# Altium footprint library JLC_25.PcbLib: 87 footprints (part 6 of 6)
Each footprint in its own frame and in the unit in brackets; x right, y up, seen from the top. Pads: shape width x height; smd on the part's side, far side on the other; paste and mask are expansions set on the pad; w line width, h text height; cw(c..) or ccw(c..) is an arc to the next point about the centre after c.
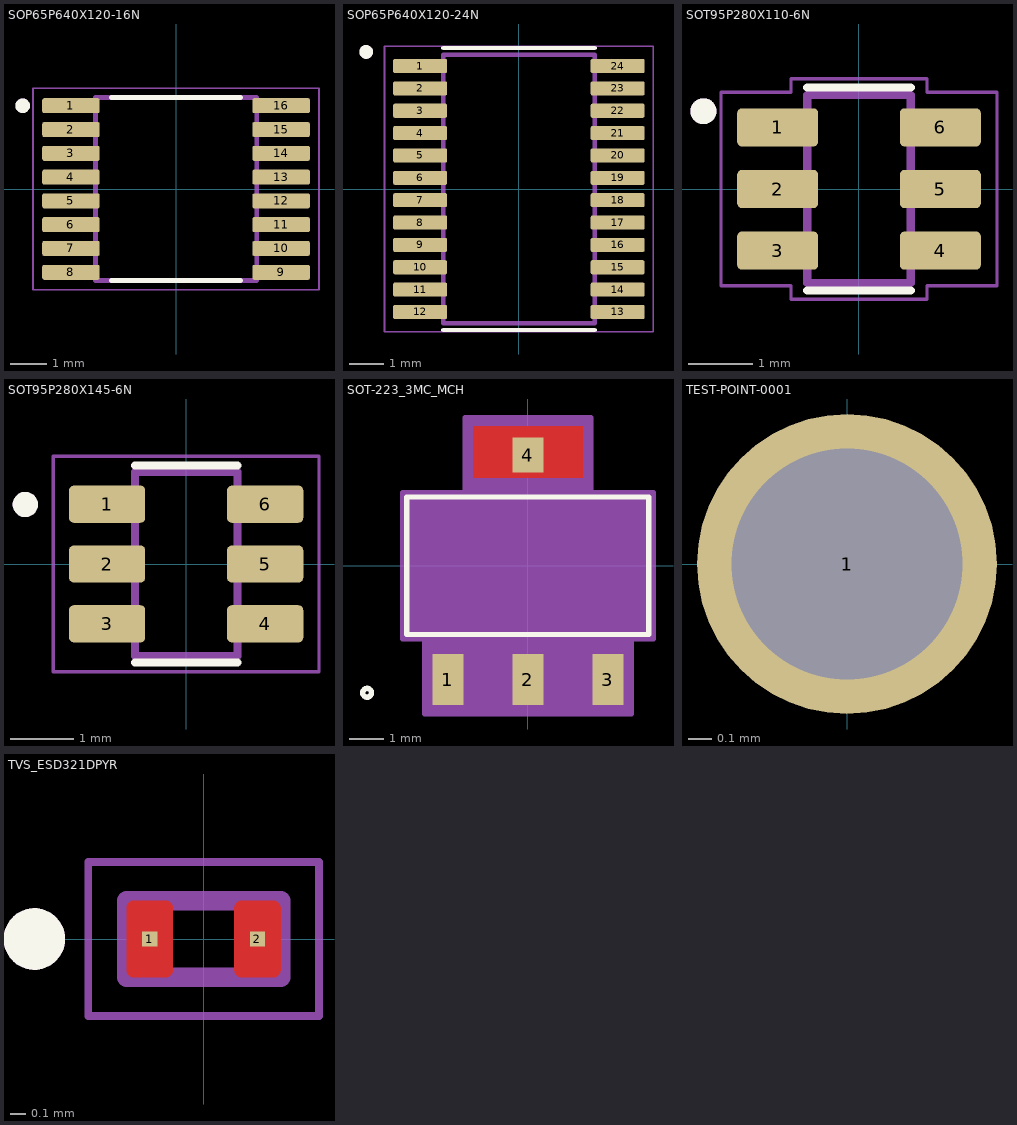
[diagram p5: the footprints below, top view; thin cyan lines are the x and y axes]

## SOP65P640X120-16N [mm]
height 1.2
pads (16):
  rrect25% 1.57x0.41 smd: 1(-2.87,2.275) 2(-2.87,1.625) 3(-2.87,0.975) 4(-2.87,0.325) 5(-2.87,-0.325) 6(-2.87,-0.975) 7(-2.87,-1.625) 8(-2.87,-2.275) 9(2.87,-2.275) 10(2.87,-1.625) 11(2.87,-0.975) 12(2.87,-0.325) 13(2.87,0.325) 14(2.87,0.975) 15(2.87,1.625) 16(2.87,2.275)
Top Overlay:
  circle w0.2: c-4.19,2.275 r0.1
  lines w0.127: -1.765,-2.5 1.765,-2.5 ; -1.765,2.5 1.765,2.5
Mechanical 13:
  circle w0.2: c-4.19,2.275 r0.1
  lines w0.127: -2.2,-2.5 -2.2,2.5 2.2,2.5 2.2,-2.5 -2.2,-2.5
Mechanical 15:
  lines w0.05: -3.905,-2.75 -3.905,2.75 3.905,2.75 3.905,-2.75 -3.905,-2.75
3D body "step_temp.STEP": height 1.2, standoff 0, extent -3.2,-2.5 3.2,2.5

## SOP65P640X120-24N [mm]
height 1.2
pads (24):
  rrect25% 1.57x0.41 smd: 1(-2.87,3.575) 2(-2.87,2.925) 3(-2.87,2.275) 4(-2.87,1.625) 5(-2.87,0.975) 6(-2.87,0.325) 7(-2.87,-0.325) 8(-2.87,-0.975) 9(-2.87,-1.625) 10(-2.87,-2.275) 11(-2.87,-2.925) 12(-2.87,-3.575) 13(2.87,-3.575) 14(2.87,-2.925) 15(2.87,-2.275) 16(2.87,-1.625) 17(2.87,-0.975) 18(2.87,-0.325) 19(2.87,0.325) 20(2.87,0.975) 21(2.87,1.625) 22(2.87,2.275) 23(2.87,2.925) 24(2.87,3.575)
Top Overlay:
  circle w0.2: c-4.44,3.985 r0.1
  lines w0.127: -2.2,-4.1 2.2,-4.1 ; -2.2,4.1 2.2,4.1
Mechanical 13:
  circle w0.2: c-4.44,3.985 r0.1
  lines w0.127: -2.2,-3.9 2.2,-3.9 2.2,3.9 -2.2,3.9 -2.2,-3.9
Mechanical 15:
  lines w0.05: -3.905,-4.15 3.905,-4.15 3.905,4.15 -3.905,4.15 -3.905,-4.15
3D body "step_temp.STEP": height 1.2, standoff 0, extent -3.2,-3.9 3.2,3.9

## SOT95P280X110-6N [mm]
height 1.1
pads (6):
  rrect25% 1.25x0.59 smd: 1(-1.255,0.95) 2(-1.255,0) 3(-1.255,-0.95) 4(1.255,-0.95) 5(1.255,0) 6(1.255,0.95)
Top Overlay:
  circle w0.2: c-2.4,1.2 r0.1
  lines w0.127: -0.8,-1.565 0.8,-1.565 ; -0.8,1.565 0.8,1.565
Mechanical 13:
  circle w0.2: c-2.4,1.2 r0.1
  lines w0.127: -0.8,-1.45 -0.8,1.45 0.8,1.45 0.8,-1.45 -0.8,-1.45
Mechanical 15:
  lines w0.05: -2.13,-1.495 -2.13,1.495 -1.05,1.495 -1.05,1.7 1.05,1.7 1.05,1.495 2.13,1.495 2.13,-1.495 1.05,-1.495 1.05,-1.7 -1.05,-1.7 -1.05,-1.495 -2.13,-1.495
3D body "step_temp.STEP": height 1.1, standoff 0, extent -1.4,-1.45 1.4,1.45

## SOT95P280X145-6N [mm]
pads (6):
  rrect25% 1.21x0.59 smd: 1(-1.255,0.95) 2(-1.255,0) 3(-1.255,-0.95) 4(1.255,-0.95) 5(1.255,0) 6(1.255,0.95)
Top Overlay:
  circle w0.2: c-2.555,0.945 r0.1
  lines w0.127: -0.813,-1.565 0.813,-1.565 ; -0.813,1.565 0.813,1.565
Mechanical 13:
  circle w0.2: c-2.555,0.945 r0.1
  lines w0.127: -0.813,-1.462 -0.813,1.462 0.813,1.462 0.813,-1.462 -0.813,-1.462
Mechanical 15:
  lines w0.05: -2.11,-1.713 2.11,-1.713 2.11,1.713 -2.11,1.713 -2.11,-1.713
3D body "step_temp.STEP": height 1.42, standoff -0.03, extent -1.4,-1.462 1.4,1.462

## SOT-223_3MC_MCH [mil]
pads (4):
  rect 35x58 smd paste+0 mask+0: 1(-90.55,-128.7) 2(0,-128.7) 3(90.55,-128.7)
  rect 35x40 smd paste+0 mask+0: 4(0,125.27)
Top Layer:
  region: 62,99.7 62,157.7 -62,157.7 -62,99.7
Top Overlay:
  circle w6: c-181.89,-143.7 r5
  lines w6: -136.89,-77.83 -136.89,77.83 136.89,77.83 136.89,-77.83 -136.89,-77.83
Top Paste:
  region: 62,99.7 62,157.7 -62,157.7 -62,99.7
Top Solder:
  region: 63,85.7 63,171.7 -63,171.7 -63,85.7
Mechanical 13:
  circle w0: c-121.89,-62.83 r5
  lines w1: -131.89,-72.83 -131.89,72.83 131.89,72.83 131.89,-72.83 -131.89,-72.83 ; -107.05,-143.7 -74.05,-143.7 -74.05,-72.83 -107.05,-72.83 -107.05,-143.7 ; -61,72.83 -61,143.7 61,143.7 61,72.83 -61,72.83 ; -16.5,-143.7 16.5,-143.7 16.5,-72.83 -16.5,-72.83 -16.5,-143.7 ; 74.05,-143.7 107.05,-143.7 107.05,-72.83 74.05,-72.83 74.05,-143.7
Mechanical 15:
  region: -141.89,-82.83 -141.89,82.83 -71,82.83 -71,167.7 71,167.7 71,82.83 141.89,82.83 141.89,-82.83 117.05,-82.83 117.05,-167.7 -117.05,-167.7 -117.05,-82.83
  lines w6: -141.89,-82.83 -117.05,-82.83 -117.05,-167.7 117.05,-167.7 117.05,-82.83 141.89,-82.83 141.89,82.83 71,82.83 71,167.7 -71,167.7 -71,82.83 -141.89,82.83 -141.89,-82.83
3D body "SOT-223_3MC_MCH.step": height 70.98, standoff 0, extent -131.89,-143.7 131.89,143.7

## TEST-POINT-0001 [mm] "2024 miniature test point"
pads (1):
  round 1.3 hole 1: 1(0,0)
3D body "5003--3DModel-STEP-630548.STEP": height 4.57, standoff -3.05, extent -1.27,-1.27 1.27,1.27

## TVS_ESD321DPYR [mm]
pads (2):
  rect 0.1x0.1 smd paste-1 mask+0: 1(-0.35,0) 2(0.35,0)
Top Layer:
  region: 0.458,0.249 0.46,0.249 0.463,0.248 0.465,0.248 0.468,0.247 0.47,0.246 0.473,0.245 0.475,0.243 0.477,0.242 0.479,0.24 0.481,0.239 0.483,0.237 0.485,0.235 0.487,0.233 0.489,0.231 0.49,0.229 0.492,0.227 0.493,0.225 0.495,0.223 0.496,0.22 0.497,0.218 0.498,0.215 0.498,0.213 0.499,0.21 0.499,0.208 0.5,0.205 0.5,0.203 0.5,0.2 0.5,-0.2 0.5,-0.203 0.5,-0.205 0.499,-0.208 0.499,-0.21 0.498,-0.213 0.498,-0.215 0.497,-0.218 0.496,-0.22 0.495,-0.223 0.493,-0.225 0.492,-0.227 0.49,-0.229 0.489,-0.231 0.487,-0.233 0.485,-0.235 0.483,-0.237 0.481,-0.239 0.479,-0.24 0.477,-0.242 0.475,-0.243 0.473,-0.245 0.47,-0.246 0.468,-0.247 0.465,-0.248 0.463,-0.248 0.46,-0.249 0.458,-0.249 0.455,-0.25 0.245,-0.25 0.242,-0.249 0.24,-0.249 0.237,-0.248 0.235,-0.248 0.232,-0.247 0.23,-0.246 0.227,-0.245 0.225,-0.243 0.223,-0.242 0.221,-0.24 0.219,-0.239 0.217,-0.237 0.215,-0.235 0.213,-0.233 0.211,-0.231 0.21,-0.229 0.208,-0.227 0.207,-0.225 0.205,-0.223 0.204,-0.22 0.203,-0.218 0.202,-0.215 0.202,-0.213 0.201,-0.21 0.201,-0.208 0.2,-0.205 0.2,-0.203 0.2,-0.2 0.2,0.2 0.2,0.203 0.2,0.205 0.201,0.208 0.201,0.21 0.202,0.213 0.202,0.215 0.203,0.218 0.204,0.22 0.205,0.223 0.207,0.225 0.208,0.227 0.21,0.229 0.211,0.231 0.213,0.233 0.215,0.235 0.217,0.237 0.219,0.239 0.221,0.24 0.223,0.242 0.225,0.243 0.227,0.245 0.23,0.246 0.232,0.247 0.235,0.248 0.237,0.248 0.24,0.249 0.242,0.249 0.245,0.25 0.455,0.25
  region: -0.242,0.249 -0.24,0.249 -0.237,0.248 -0.235,0.248 -0.232,0.247 -0.23,0.246 -0.227,0.245 -0.225,0.243 -0.223,0.242 -0.221,0.24 -0.219,0.239 -0.217,0.237 -0.215,0.235 -0.213,0.233 -0.211,0.231 -0.21,0.229 -0.208,0.227 -0.207,0.225 -0.205,0.223 -0.204,0.22 -0.203,0.218 -0.202,0.215 -0.202,0.213 -0.201,0.21 -0.201,0.208 -0.2,0.205 -0.2,0.203 -0.2,0.2 -0.2,-0.2 -0.2,-0.203 -0.2,-0.205 -0.201,-0.208 -0.201,-0.21 -0.202,-0.213 -0.202,-0.215 -0.203,-0.218 -0.204,-0.22 -0.205,-0.223 -0.207,-0.225 -0.208,-0.227 -0.21,-0.229 -0.211,-0.231 -0.213,-0.233 -0.215,-0.235 -0.217,-0.237 -0.219,-0.239 -0.221,-0.24 -0.223,-0.242 -0.225,-0.243 -0.227,-0.245 -0.23,-0.246 -0.232,-0.247 -0.235,-0.248 -0.237,-0.248 -0.24,-0.249 -0.242,-0.249 -0.245,-0.25 -0.455,-0.25 -0.458,-0.249 -0.46,-0.249 -0.463,-0.248 -0.465,-0.248 -0.468,-0.247 -0.47,-0.246 -0.473,-0.245 -0.475,-0.243 -0.477,-0.242 -0.479,-0.24 -0.481,-0.239 -0.483,-0.237 -0.485,-0.235 -0.487,-0.233 -0.489,-0.231 -0.49,-0.229 -0.492,-0.227 -0.493,-0.225 -0.495,-0.223 -0.496,-0.22 -0.497,-0.218 -0.498,-0.215 -0.498,-0.213 -0.499,-0.21 -0.499,-0.208 -0.5,-0.205 -0.5,-0.203 -0.5,-0.2 -0.5,0.2 -0.5,0.203 -0.5,0.205 -0.499,0.208 -0.499,0.21 -0.498,0.213 -0.498,0.215 -0.497,0.218 -0.496,0.22 -0.495,0.223 -0.493,0.225 -0.492,0.227 -0.49,0.229 -0.489,0.231 -0.487,0.233 -0.485,0.235 -0.483,0.237 -0.481,0.239 -0.479,0.24 -0.477,0.242 -0.475,0.243 -0.473,0.245 -0.47,0.246 -0.468,0.247 -0.465,0.248 -0.463,0.248 -0.46,0.249 -0.458,0.249 -0.455,0.25 -0.245,0.25
Top Overlay:
  circle w0.2: c-1.1,0 r0.1
Top Paste:
  drawing of 2 lines, arcs and shapes, not listed
Top Solder:
  drawing of 2 lines, arcs and shapes, not listed
Mechanical 13:
  circle w0.2: c-1.1,0 r0.1
  lines w0.127: -0.5,-0.25 0.5,-0.25 0.5,0.25 -0.5,0.25 -0.5,-0.25
Mechanical 15:
  lines w0.05: -0.75,-0.5 0.75,-0.5 0.75,0.5 -0.75,0.5 -0.75,-0.5
3D body "step_temp.STEP": height 0.45, standoff 0, extent -0.5,-0.3 0.5,0.3